# Altium integrated library RR0816P-751-D.IntLib: 1 symbol
Pins are listed as number, name and electrical type; pins without a type are passive.

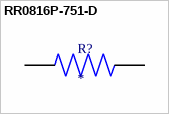
[diagram p0: symbol RR0816P-751-D]

## RR0816P-751-D
designator R?
Res Thin Film 0603 750 Ohm 0.5% 0.063W(1/16W) Â±25ppm/Â°C Pad SMD Automotive T/R; MF: Susumu; MP: RR0816P-751-D; SnapEDA_Link: https://www.snapeda.com/parts/RR0816P-751-D/Susumu/view-part/?ref=snap; Package: 1608 Susumu; Value: *; Check_prices: https://www.snapeda.com/parts/RR0816P-751-D/Susumu/view-part/?ref=eda
footprint RESC1608X50N
pins: 1, 2